# Altium schematic symbol library UGO_RGB.SchLib: 14 symbols
Pins are listed as number, name and electrical type; pins without a type are passive.

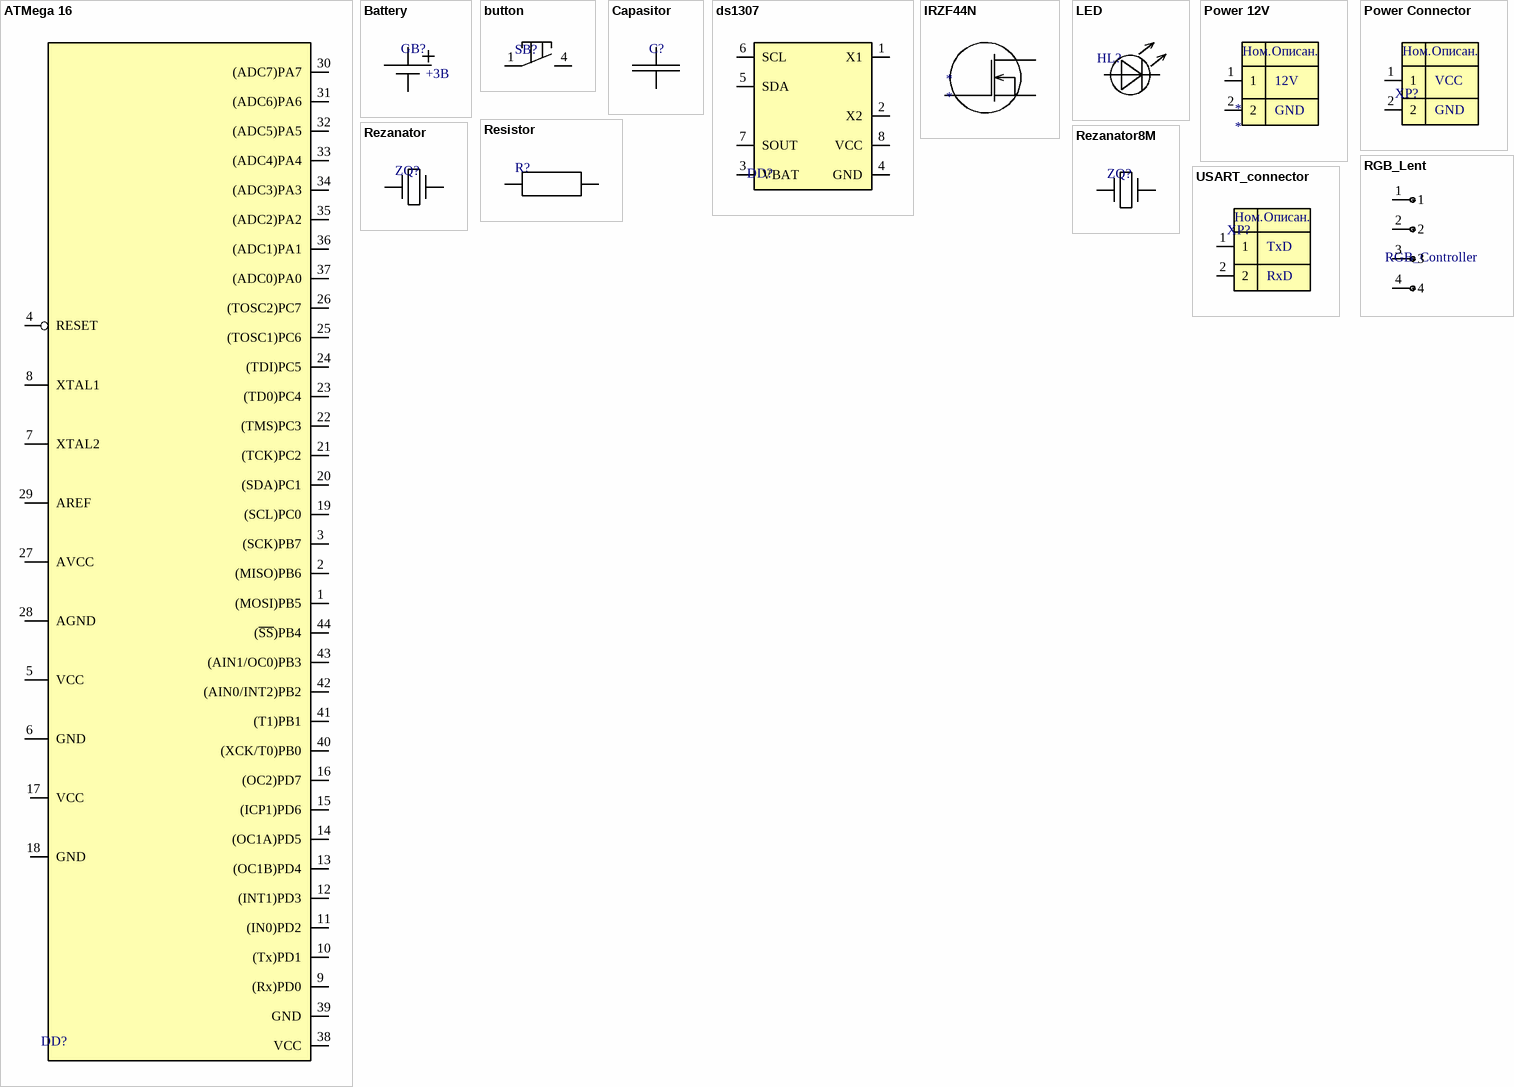
[diagram p0: symbols ATMega 16 to USART_connector]

## ATMega 16
designator DD?  (value not drawn)
footprint 44A_M (Thin QFP, 44-Leads, Body 10x10mm, Pitch 0.8mm, IPC Low Density)
pins: 1 (MOSI)PB5, 2 (MISO)PB6, 3 (SCK)PB7, 4 RESET, 5 VCC, 6 GND, 7 XTAL2, 8 XTAL1, 9 (Rx)PD0, 10 (Tx)PD1, 11 (IN0)PD2, 12 (INT1)PD3, 13 (OC1B)PD4, 14 (OC1A)PD5, 15 (ICP1)PD6, 16 (OC2)PD7, 17 VCC, 18 GND, 19 (SCL)PC0, 20 (SDA)PC1, 21 (TCK)PC2, 22 (TMS)PC3, 23 (TD0)PC4, 24 (TDI)PC5, 25 (TOSC1)PC6, 26 (TOSC2)PC7, 27 AVCC, 28 AGND, 29 AREF, 30 (ADC7)PA7, 31 (ADC6)PA6, 32 (ADC5)PA5, 33 (ADC4)PA4, 34 (ADC3)PA3, 35 (ADC2)PA2, 36 (ADC1)PA1, 37 (ADC0)PA0, 38 VCC, 39 GND, 40 (XCK/T0)PB0, 41 (T1)PB1, 42 (AIN0/INT2)PB2, 43 (AIN1/OC0)PB3, 44 (~{SS})PB4

## Battery
designator GB?  (value not drawn)
pins: 1, 2
text: +3В

## button
designator SB?  (value not drawn)
footprint 1102WD / 6x6x9,5 smd (T218)  технические характеристики скачать документацию (datasheet) по IT-1102WD / 6x6x9,5 smd
pins: 1, 4

## Capasitor
designator C?  (value not drawn)
footprint CAPC3216L (Chip Capacitor, Body 3.2x1.6mm, IPC High Density)
pins: 1, 2

## ds1307
designator DD?  (value not drawn)
footprint SOIC127P600X135-8N (SOIC, 8-Leads, Body 4,88x3,93mm, Pitch 1,27mm, IPC Medium Density)
pins: 1 X1, 2 X2, 3 VBAT, 4 GND, 5 SDA, 6 SCL, 7 SOUT, 8 VCC

## IRZF44N
designator *
footprint TO-220
pins: 1 G, 2 D, 3 Source

## LED
designator HL?  (value not drawn)
footprint GNLR
pins: 1, 2

## Power 12V
designator *
footprint HB-2.0
pins: 1, 2
text: Ном.; Описан.; 12V; GND

## Power Connector
designator XP?  (value not drawn)
footprint HB-2.0
pins: 1, 2
text: Ном.; Описан.; VCC; GND

## Resistor
designator R?  (value not drawn)
footprint RESC3216M (Chip Resistor, Body 3.2x1.6mm, IPC Low Density)
pins: 1, 2

## Rezanator
designator ZQ?  (value not drawn)
footprint BCY-W2/D2.1 (Crystal, Thru-Hole; 2 Leads; Body 2.1 x 6.2 mm (Dia.xH))
pins: 1, 2

## Rezanator8M
designator ZQ?  (value not drawn)
footprint HC-49US
pins: 1, 2

## RGB_Lent
designator RGB_Controller  (value not drawn)
footprint RGB
pins: 1, 2, 3, 4

## USART_connector
designator XP?  (value not drawn)
footprint pls-02
pins: 1, 2
text: Ном.; Описан.; TxD; RxD